# Altium schematic symbol library heed.SCHLIB: 22 symbols
Pins are listed as number, name and electrical type; pins without a type are passive.

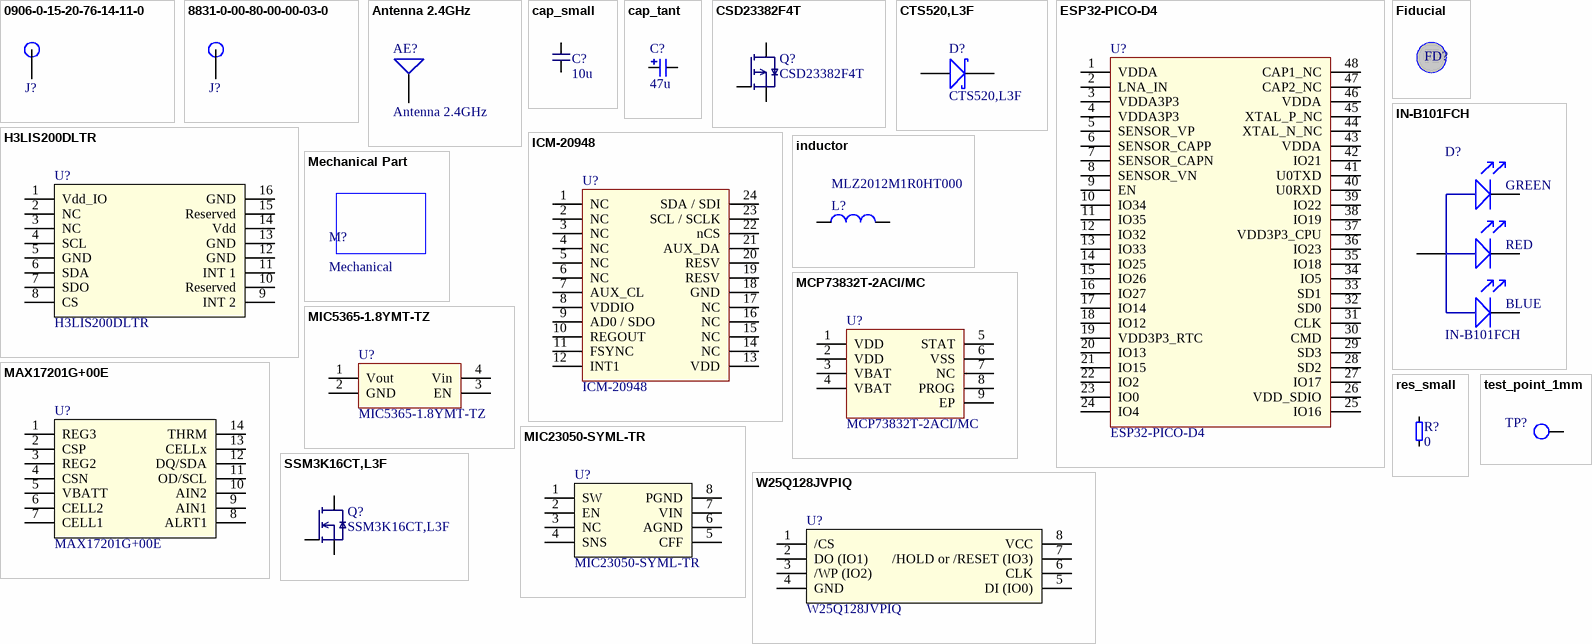
[diagram p0: symbols 0906-0-15-20-76-14-11-0 to W25Q128JVPIQ]

## 0906-0-15-20-76-14-11-0
designator J?  (value not drawn)
CONN PIN SPRING-LOADED PCB GOLD
pins: 1

## 8831-0-00-80-00-00-03-0
designator J?  (value not drawn)  (mechanical)
CONN PC PIN CIRC 0.025DIA TIN
footprint 8831-0-00-80-00-00-03-0
pins: 1

## Antenna 2.4GHz
designator AE?  (no BOM)
footprint Antenna 2.4Ghz
pins: 1

## cap_small
designator C?  value 10u
CAP CER 10UF 6.3V X5R 0402
footprint cap 0402 (Chip Capacitor, 2-Leads, Body 1.00x0.50mm, IPC Medium Density)
footprint cap_0603
footprint cap_0805
footprint cap_1206
pins: 1, 2

## cap_tant
designator C?, comment value 47u  (hidden comment: F980J476MMA)
CAP TANT 47UF 20% 6.3V 0603
footprint cap_tant_0603 (cap_0603)
pins: 1, 2

## CSD23382F4T
designator Q?
MOSFET P-CH 12V 3.5A 3PICOSTAR
footprint CSD23382F4T
pins: 1, 2, 3

## CTS520,L3F
designator D?
DIODE SCHOTTKY 30V 200MA CST2
footprint CTS520,L3F
pins: 1, 2

## ESP32-PICO-D4
designator U?
ESP32 WIFI BLUETOOTH
footprint ESP32-PICO-D4 (PQFN, 48-Leads, Body 7,00x7,00mm, Pitch 0,50mm, Thermal Pad 5,40x5,40mm, IPC Medium Density)
pins: 1 VDDA, 2 LNA_IN, 3 VDDA3P3, 4 VDDA3P3, 5 SENSOR_VP, 6 SENSOR_CAPP, 7 SENSOR_CAPN, 8 SENSOR_VN, 9 EN, 10 IO34, 11 IO35, 12 IO32, 13 IO33, 14 IO25, 15 IO26, 16 IO27, 17 IO14, 18 IO12, 19 VDD3P3_RTC, 20 IO13, 21 IO15, 22 IO2, 23 IO0, 24 IO4, 25 IO16, 26 VDD_SDIO, 27 IO17, 28 SD2, 29 SD3, 30 CMD, 31 CLK, 32 SD0, 33 SD1, 34 IO5, 35 IO18, 36 IO23, 37 VDD3P3_CPU, 38 IO19, 39 IO22, 40 U0RXD, 41 U0TXD, 42 IO21, 43 VDDA, 44 XTAL_N_NC, 45 XTAL_P_NC, 46 VDDA, 47 CAP2_NC, 48 CAP1_NC, 49 hidden to GND

## Fiducial
designator FD?  (value not drawn)  (no BOM)
footprint Fiducial

## H3LIS200DLTR
designator U?
ACCEL 100-200G I2C/SPI 16LGA
footprint H3LIS200DLTR (PQFN, 16-Leads, Body 3.00x3.00mm, Pitch 0.50mm, IPC Medium Density)
pins: 1 Vdd_IO, 2 NC, 3 NC, 4 SCL, 5 GND, 6 SDA, 7 SDO, 8 CS, 9 INT 2, 10 Reserved, 11 INT 1, 12 GND, 13 GND, 14 Vdd, 15 Reserved, 16 GND

## ICM-20948
designator U?
IMU ACCEL/GYRO/COMPI2C/SPI 24QFN
footprint ICM-20948 (QFN, 24-Leads, Body 3,00x3,00mm, Pitch 0,40mm, Thermal Pad 1,54x1,70mm, IPC Medium Density)
pins: 1 NC, 2 NC, 3 NC, 4 NC, 5 NC, 6 NC, 7 AUX_CL, 8 VDDIO, 9 AD0 / SDO, 10 REGOUT, 11 FSYNC, 12 INT1, 13 VDD, 14 NC, 15 NC, 16 NC, 17 NC, 18 GND, 19 RESV, 20 RESV, 21 AUX_DA, 22 nCS, 23 SCL / SCLK, 24 SDA / SDI

## IN-B101FCH
designator D?
LED RGB TOP VIEW SMD
footprint IN-B101FCH
pins: 1, 2, 3, 4
text: GREEN; RED; BLUE

## inductor
designator L?, comment MLZ2012M1R0HT000
FIXED IND 1UH 800MA 100 MOHM SMD
footprint inductor_0402 (Chip Inductor, 2-Leads, Body 1.00x0.50mm, IPC Medium Density)
footprint inductor_0603 (Chip Inductor, 2-Leads, Body 1.60x0.80mm, IPC Medium Density)
footprint inductor_0805 (Chip Inductor, 2-Leads, Body 2.00x1.25mm, IPC Medium Density)
pins: 1, 2

## MAX17201G+00E
designator U?
IC BATTERY MONITOR 14TDFN
footprint MAX17201G+00E
pins: 1 REG3, 2 CSP, 3 REG2, 4 CSN, 5 VBATT, 6 CELL2, 7 CELL1, 8 ALRT1, 9 AIN1, 10 AIN2, 11 OD/SCL, 12 DQ/SDA, 13 CELLx, 14 THRM, 15 hidden to GND

## MCP73832T-2ACI/MC
designator U?
IC CONTROLLER LI-ION 4.2V 8DFN
footprint MCP73832T-2ACI/MC (IC CONTROLLER LI-ION 4.2V 8DFN)
pins: 1 VDD, 2 VDD, 3 VBAT, 4 VBAT, 5 STAT, 6 VSS, 7 NC, 8 PROG, 9 EP

## Mechanical Part
designator M?, comment Mechanical  (mechanical)

## MIC5365-1.8YMT-TZ
designator U?
IC REG LINEAR 1.8V 150MA 4TMLF
footprint MIC5365-1.8YMT-TZ
pins: 1 Vout, 2 GND, 3 EN, 4 Vin, 5 hidden to GND

## MIC23050-SYML-TR
designator U?
IC REG BUCK 3.3V 0.6A SYNC 8MLF
footprint MIC23050-SYML-TR (SON, 8-Leads, Body 2.00x2.00mm, Pitch 0.50mm, Thermal Pad 1.20x0.60mm, IPC Medium Density)
pins: 1 SW, 2 EN, 3 NC, 4 SNS, 5 CFF, 6 AGND, 7 VIN, 8 PGND, 9 hidden to GND

## res_small
designator R?  value 0
RES 0 OHM JUMPER 1/16W 0402
footprint res 0402 (Chip Resistor, 2-Leads, Body 1.05x0.54mm, IPC Medium Density)
footprint res_0603
footprint res_0805
pins: 1, 2

## SSM3K16CT,L3F
designator Q?
X34 PB-F CST3 FET (LF) TRANSISTO
footprint SSM3K16CT,L3F
pins: 1, 2, 3

## test_point_1mm
designator TP?  (value not drawn)  (no BOM)
footprint test_point_1mm
pins: 1

## W25Q128JVPIQ
designator U?
IC FLASH 128M SPI 133MHZ 8WSON
footprint Model Name (Footprint not found)
footprint W25Q128JVPIQ (SON, 8-Leads, Body 5.00x6.00mm, Pitch 1.27mm, Thermal Pad 4.30x3.40mm, IPC Medium Density)
pins: 1 /CS, 2 DO (IO1), 3 /WP (IO2), 4 GND, 5 DI (IO0), 6 CLK, 7 /HOLD or /RESET (IO3), 8 VCC, 9 hidden to GND